# Altium integrated library V80212MS02Q.IntLib: 1 symbol
Pins are listed as number, name and electrical type; pins without a type are passive.

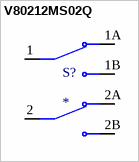
[diagram p0: symbol V80212MS02Q]

## V80212MS02Q
designator S?
Switch,Slide,Power&Voltage Select,DPDT,ON-ON,Screwdriver Slot,10A,125VAC,PC | C&K V80212MS02Q; SnapEDA_Link: https://www.snapeda.com/parts/V80212MS02Q/C%2526K/view-part/?ref=snap; Package: None; Value: *; MF: C&K; MP: V80212MS02Q; Check_prices: https://www.snapeda.com/parts/V80212MS02Q/C%2526K/view-part/?ref=eda
footprint SW_V80212MS02Q
pins: 1, 1A, 1B, 2, 2A, 2B